# Altium footprint library 74xx-little-us.PCBLIB: 1 footprints
Each footprint in its own frame and in the unit in brackets; x right, y up, seen from the top. Pads: shape width x height; smd on the part's side, far side on the other; paste and mask are expansions set on the pad; w line width, h text height; cw(c..) or ccw(c..) is an arc to the next point about the centre after c.
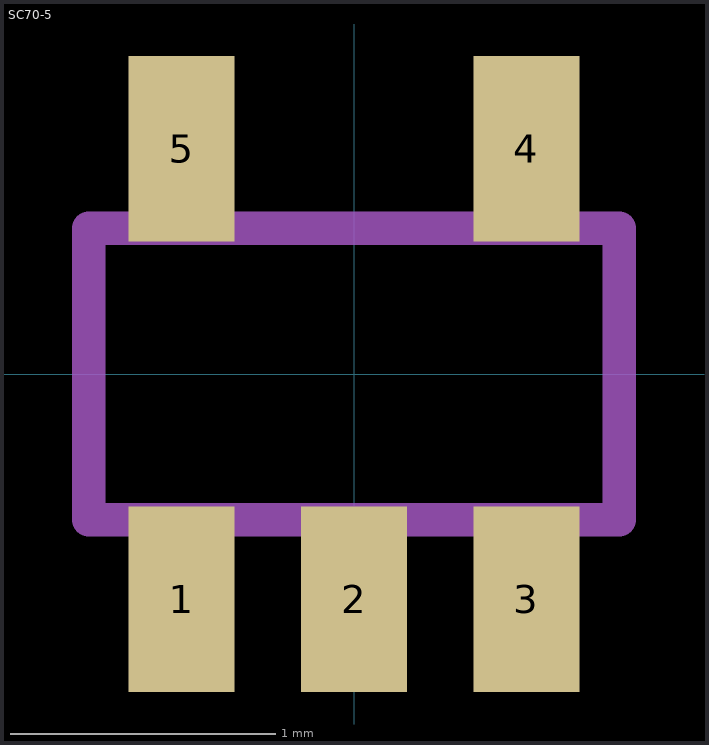
[diagram p0: the footprint, top view; thin cyan lines are the x and y axes]

## SC70-5 [mm]
pads (5):
  rect 0.4x0.7 smd: 1(-0.65,-0.85) 2(0,-0.85) 3(0.65,-0.85) 4(0.65,0.85) 5(-0.65,0.85)
tDocu:
  region: -0.125,-1.05 -0.125,-0.6 0.125,-0.6 0.125,-1.05
  region: -0.775,-1.05 -0.775,-0.6 -0.525,-0.6 -0.525,-1.05
  region: 0.525,-1.05 0.525,-0.6 0.775,-0.6 0.775,-1.05
  region: -0.775,0.6 -0.775,1.05 -0.525,1.05 -0.525,0.6
  region: 0.525,0.6 0.525,1.05 0.775,1.05 0.775,0.6
  lines w0.127: -1,-0.55 1,-0.55 ; -1,0.55 1,0.55
tPlace:
  lines w0.127: -1,-0.55 -1,0.55 ; 1,-0.55 1,0.55